# Altium integrated library Analog Devices Data Converters Analog-to-Digital Converters.IntLib: 2400 symbols (part 291 of 338)
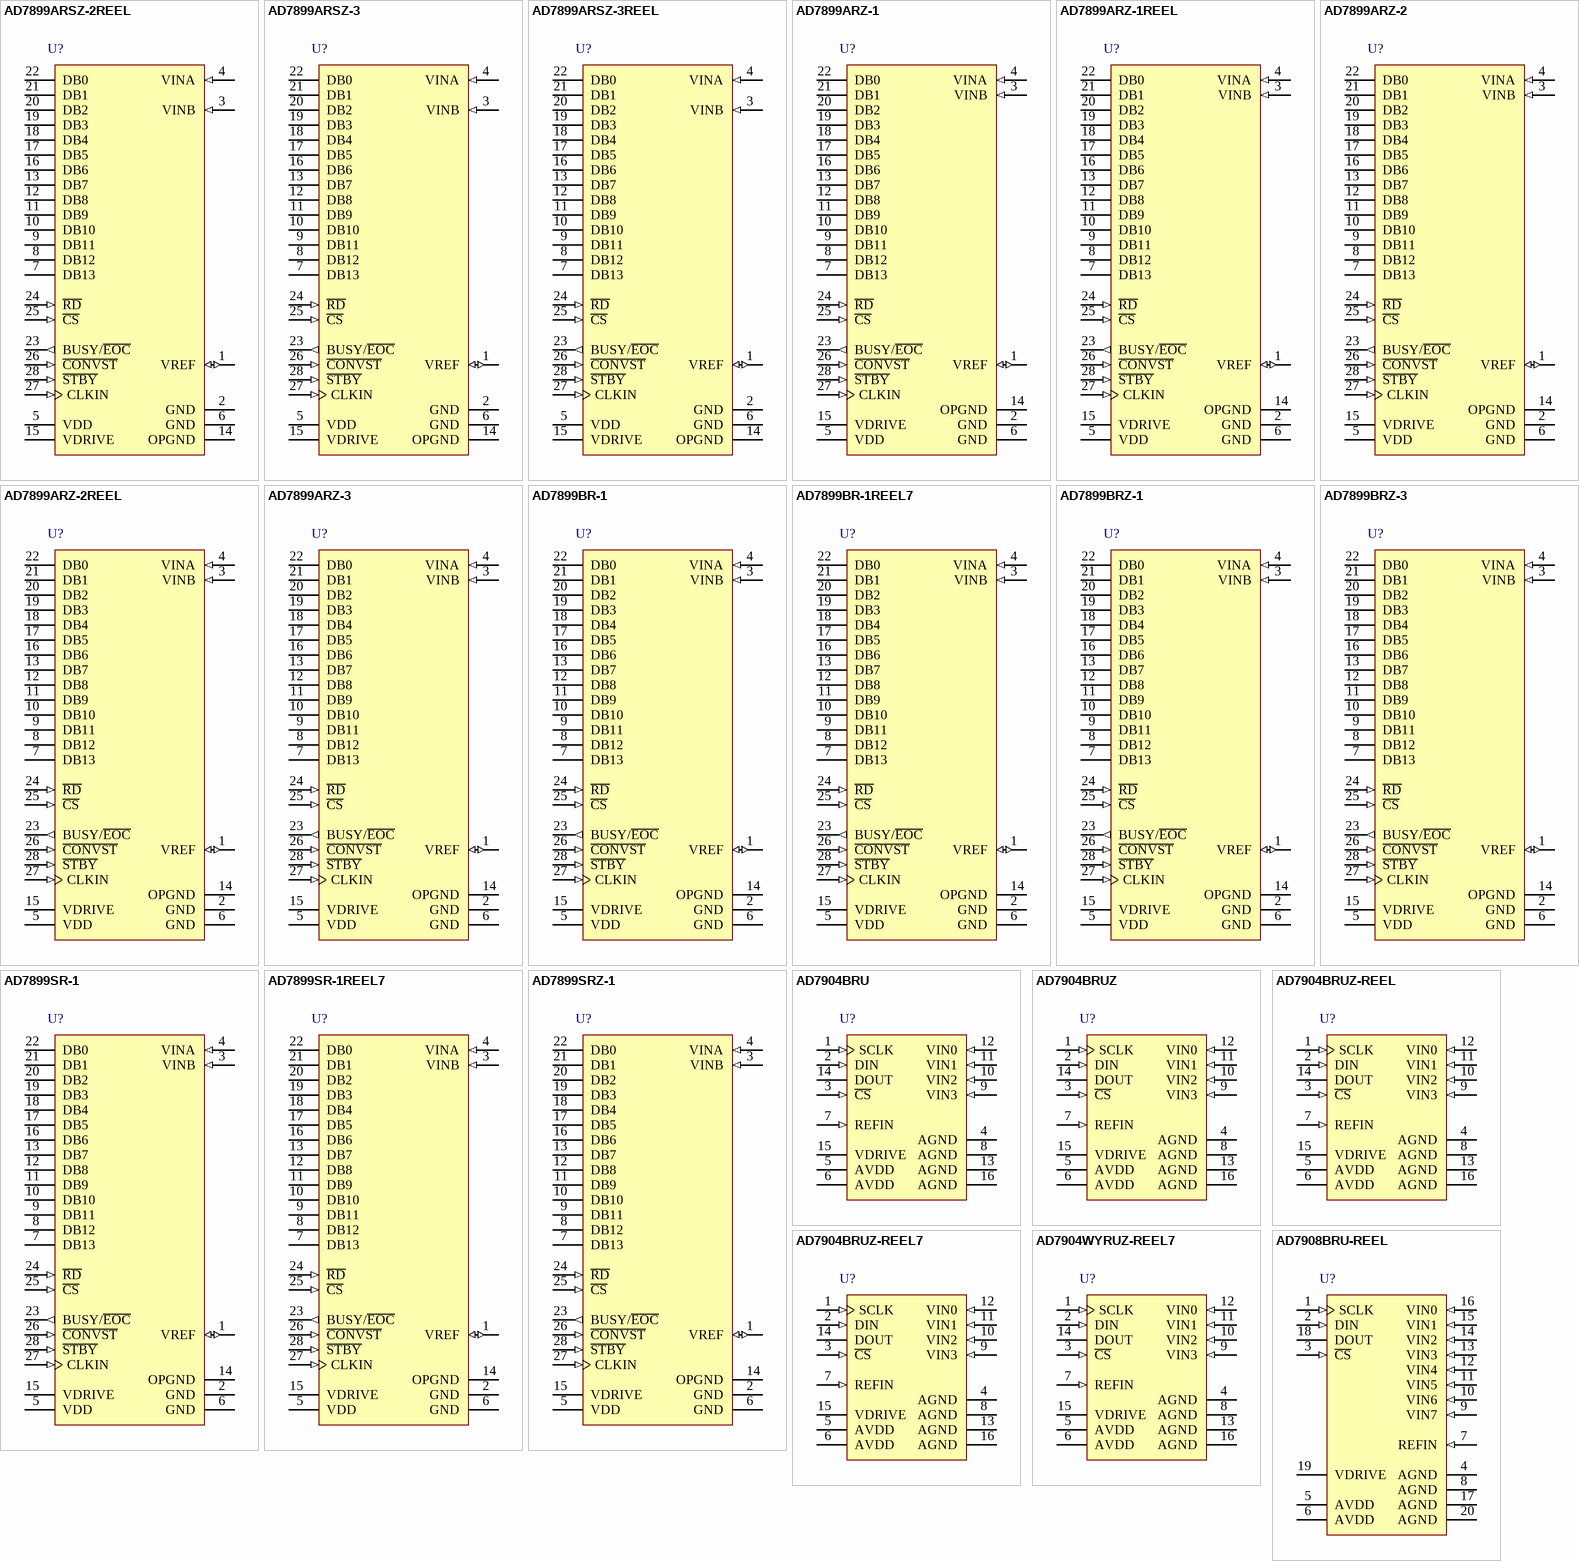
[diagram p413: symbols AD7899ARSZ-2REEL to AD7908BRU-REEL]

## AD7899BR-1REEL7
designator U?
Single 14-Bit Analog-to-Digital Converter with Parallel Interface, 5 V 400KSPS, -40 to +85 degC, RW-28, Reel; Part Number: AD7899; Manufacturer: Analog Devices; Resolution (Bits): 14; Channels: 1; Throughput Rate (SPS): 400K; Interface: Par; DatasheetVersion: Rev.A; PackageVersion: 060706-A; PackageReference: RW-28; PackageDescription: 28-Lead Standard Small Outline Package [SOIC_W]; RoHS: N; Packing: Reel; Mounting Technology: Surface Mount; Code_JEDEC: MS-013-AE; ComponentLink1Description: Manufacturer URL; ComponentLink1URL: http://www.analog.com/en/index.html; ComponentLink2Description: Datasheet; ComponentLink2URL: http://www.analog.com/static/imported-files/data_sheets/AD7899.pdf; ComponentLink3Description: Package Specification; ComponentLink3URL: http://www.analog.com/static/imported-files/packages/35833120341221RW_28.pdf; ComponentLink4Description: Product URL; ComponentLink4URL: http://www.analog.com/en/analog-to-digital-converters/ad-converters/ad7899/products/product.html
footprint RW-28_N (SOIC, 28-Leads, Body 17.9x7.5mm, Pitch 1.27mm, IPC Medium Density)
footprint RW-28_L (SOIC, 28-Leads, Body 17.9x7.5mm, Pitch 1.27mm, IPC High Density)
footprint RW-28_M (SOIC, 28-Leads, Body 17.9x7.5mm, Pitch 1.27mm, IPC Low Density)
pins: 1 VREF (io) "Reference Input/Output. This pin is provides access to the internal reference (2.5 V +/- 20 mV) and also allows the internal reference to be overdriven by an external reference source (2.5 V +/- 5%). A 0.1 uF decoupling (See Datasheet)", 2 GND (power) "Ground Pin. This pin should be connected to the system’s analog ground plane.", 3 VINB (in) "Analog Inputs. See Analog Input Section.", 4 VINA (in) "Analog Inputs. See Analog Input Section.", 5 VDD (power) "Positive Supply Voltage, 5.0 V +/- 5%.", 6 GND (power) "Ground Pin. This pin should be connected to the system’s analog ground plane.", 7 DB13 (hiz) "Data Bit 13 is the MSB, followed by Data Bit 12 to Data Bit 7. Three-state outputs.", 8 DB12 (hiz) "Data Bit 13 is the MSB, followed by Data Bit 12 to Data Bit 7. Three-state outputs.", 9 DB11 (hiz) "Data Bit 13 is the MSB, followed by Data Bit 12 to Data Bit 7. Three-state outputs.", 10 DB10 (hiz) "Data Bit 13 is the MSB, followed by Data Bit 12 to Data Bit 7. Three-state outputs.", 11 DB9 (hiz) "Data Bit 13 is the MSB, followed by Data Bit 12 to Data Bit 7. Three-state outputs.", 12 DB8 (hiz) "Data Bit 13 is the MSB, followed by Data Bit 12 to Data Bit 7. Three-state outputs.", 13 DB7 (hiz) "Data Bit 13 is the MSB, followed by Data Bit 12 to Data Bit 7. Three-state outputs.", 14 OPGND (power) "Output Driver Ground. This is the ground pin of the output drivers for D13 to D0 and BUSY/E\O\C\. It should be connected to the system’s analog ground plane .", 15 VDRIVE (power) "This pin provides the positive supply voltage for the digital inputs and outputs. It is normally tied to VDD but may also be powered by a 3 V +/- 10% supply which allows the inputs and outputs to be interfaced to 3 V (See Datasheet)", 16 DB6 (hiz) "Data Bit 6 to Data Bit 0. Three-state Outputs.", 17 DB5 (hiz) "Data Bit 6 to Data Bit 0. Three-state Outputs.", 18 DB4 (hiz) "Data Bit 6 to Data Bit 0. Three-state Outputs.", 19 DB3 (hiz) "Data Bit 6 to Data Bit 0. Three-state Outputs.", 20 DB2 (hiz) "Data Bit 6 to Data Bit 0. Three-state Outputs.", 21 DB1 (hiz) "Data Bit 6 to Data Bit 0. Three-state Outputs.", 22 DB0 (hiz) "Data Bit 6 to Data Bit 0. Three-state Outputs.", 23 BUSY/~{EOC} (out) "BUSY/E\O\C\ Output. Digital output pin used to signify that a conversion is in progress or that a conversion has finished. The function of the BUSY/E\O\C\ is determined by the state of C\O\N\V\S\T\ at the end of conversion. (See Datasheet)", 24 ~{RD} (in) "Read Input. Active low logic input which is used in conjunction with C\S\ low to enable the data outputs.", 25 ~{CS} (in) "Chip Select Input. Active low logic input. The device is selected when this input is active.", 26 ~{CONVST} (in) "Convert Start Input. Logic Input. A low to high transition on this input puts the track/hold into hold mode and starts conversion.", 27 CLKIN (in) "Conversion Clock Input. CLKIN is an externally applied clock which allows the user to control the conversion rate of the AD7899. If the CLKIN input is high on the rising edge of C\O\N\V\S\T\ an externally applied clock will (See Datasheet)", 28 ~{STBY} (in) "Standby Mode Input. Logic input which is used to put the device into the power save or standby mode. The S\T\B\Y\ input is high for normal operation and low for standby operation."

## AD7899BRZ-1
designator U?
Single 14-Bit Analog-to-Digital Converter with Parallel Interface, 5 V 400KSPS, -40 to +85 degC, RW-28, Pb-Free, Tube; Part Number: AD7899; Manufacturer: Analog Devices; Resolution (Bits): 14; Channels: 1; Throughput Rate (SPS): 400K; Interface: Par; DatasheetVersion: Rev.A; PackageVersion: 060706-A; PackageReference: RW-28; PackageDescription: 28-Lead Standard Small Outline Package [SOIC_W]; RoHS: Y; Packing: Tube; Mounting Technology: Surface Mount; Code_JEDEC: MS-013-AE; ComponentLink1Description: Manufacturer URL; ComponentLink1URL: http://www.analog.com/en/index.html; ComponentLink2Description: Datasheet; ComponentLink2URL: http://www.analog.com/static/imported-files/data_sheets/AD7899.pdf; ComponentLink3Description: Package Specification; ComponentLink3URL: http://www.analog.com/static/imported-files/packages/35833120341221RW_28.pdf; ComponentLink4Description: Product URL; ComponentLink4URL: http://www.analog.com/en/analog-to-digital-converters/ad-converters/ad7899/products/product.html
footprint RW-28_N (SOIC, 28-Leads, Body 17.9x7.5mm, Pitch 1.27mm, IPC Medium Density)
footprint RW-28_L (SOIC, 28-Leads, Body 17.9x7.5mm, Pitch 1.27mm, IPC High Density)
footprint RW-28_M (SOIC, 28-Leads, Body 17.9x7.5mm, Pitch 1.27mm, IPC Low Density)
pins: 1 VREF (io) "Reference Input/Output. This pin is provides access to the internal reference (2.5 V +/- 20 mV) and also allows the internal reference to be overdriven by an external reference source (2.5 V +/- 5%). A 0.1 uF decoupling (See Datasheet)", 2 GND (power) "Ground Pin. This pin should be connected to the system’s analog ground plane.", 3 VINB (in) "Analog Inputs. See Analog Input Section.", 4 VINA (in) "Analog Inputs. See Analog Input Section.", 5 VDD (power) "Positive Supply Voltage, 5.0 V +/- 5%.", 6 GND (power) "Ground Pin. This pin should be connected to the system’s analog ground plane.", 7 DB13 (hiz) "Data Bit 13 is the MSB, followed by Data Bit 12 to Data Bit 7. Three-state outputs.", 8 DB12 (hiz) "Data Bit 13 is the MSB, followed by Data Bit 12 to Data Bit 7. Three-state outputs.", 9 DB11 (hiz) "Data Bit 13 is the MSB, followed by Data Bit 12 to Data Bit 7. Three-state outputs.", 10 DB10 (hiz) "Data Bit 13 is the MSB, followed by Data Bit 12 to Data Bit 7. Three-state outputs.", 11 DB9 (hiz) "Data Bit 13 is the MSB, followed by Data Bit 12 to Data Bit 7. Three-state outputs.", 12 DB8 (hiz) "Data Bit 13 is the MSB, followed by Data Bit 12 to Data Bit 7. Three-state outputs.", 13 DB7 (hiz) "Data Bit 13 is the MSB, followed by Data Bit 12 to Data Bit 7. Three-state outputs.", 14 OPGND (power) "Output Driver Ground. This is the ground pin of the output drivers for D13 to D0 and BUSY/E\O\C\. It should be connected to the system’s analog ground plane .", 15 VDRIVE (power) "This pin provides the positive supply voltage for the digital inputs and outputs. It is normally tied to VDD but may also be powered by a 3 V +/- 10% supply which allows the inputs and outputs to be interfaced to 3 V (See Datasheet)", 16 DB6 (hiz) "Data Bit 6 to Data Bit 0. Three-state Outputs.", 17 DB5 (hiz) "Data Bit 6 to Data Bit 0. Three-state Outputs.", 18 DB4 (hiz) "Data Bit 6 to Data Bit 0. Three-state Outputs.", 19 DB3 (hiz) "Data Bit 6 to Data Bit 0. Three-state Outputs.", 20 DB2 (hiz) "Data Bit 6 to Data Bit 0. Three-state Outputs.", 21 DB1 (hiz) "Data Bit 6 to Data Bit 0. Three-state Outputs.", 22 DB0 (hiz) "Data Bit 6 to Data Bit 0. Three-state Outputs.", 23 BUSY/~{EOC} (out) "BUSY/E\O\C\ Output. Digital output pin used to signify that a conversion is in progress or that a conversion has finished. The function of the BUSY/E\O\C\ is determined by the state of C\O\N\V\S\T\ at the end of conversion. (See Datasheet)", 24 ~{RD} (in) "Read Input. Active low logic input which is used in conjunction with C\S\ low to enable the data outputs.", 25 ~{CS} (in) "Chip Select Input. Active low logic input. The device is selected when this input is active.", 26 ~{CONVST} (in) "Convert Start Input. Logic Input. A low to high transition on this input puts the track/hold into hold mode and starts conversion.", 27 CLKIN (in) "Conversion Clock Input. CLKIN is an externally applied clock which allows the user to control the conversion rate of the AD7899. If the CLKIN input is high on the rising edge of C\O\N\V\S\T\ an externally applied clock will (See Datasheet)", 28 ~{STBY} (in) "Standby Mode Input. Logic input which is used to put the device into the power save or standby mode. The S\T\B\Y\ input is high for normal operation and low for standby operation."

## AD7899BRZ-3
designator U?
Single 14-Bit Analog-to-Digital Converter with Parallel Interface, 5 V 400KSPS, -40 to +85 degC, RW-28, Pb-Free, Tube; Part Number: AD7899; Manufacturer: Analog Devices; Resolution (Bits): 14; Channels: 1; Throughput Rate (SPS): 400K; Interface: Par; DatasheetVersion: Rev.A; PackageVersion: 060706-A; PackageReference: RW-28; PackageDescription: 28-Lead Standard Small Outline Package [SOIC_W]; RoHS: Y; Packing: Tube; Mounting Technology: Surface Mount; Code_JEDEC: MS-013-AE; ComponentLink1Description: Manufacturer URL; ComponentLink1URL: http://www.analog.com/en/index.html; ComponentLink2Description: Datasheet; ComponentLink2URL: http://www.analog.com/static/imported-files/data_sheets/AD7899.pdf; ComponentLink3Description: Package Specification; ComponentLink3URL: http://www.analog.com/static/imported-files/packages/35833120341221RW_28.pdf; ComponentLink4Description: Product URL; ComponentLink4URL: http://www.analog.com/en/analog-to-digital-converters/ad-converters/ad7899/products/product.html
footprint RW-28_N (SOIC, 28-Leads, Body 17.9x7.5mm, Pitch 1.27mm, IPC Medium Density)
footprint RW-28_L (SOIC, 28-Leads, Body 17.9x7.5mm, Pitch 1.27mm, IPC High Density)
footprint RW-28_M (SOIC, 28-Leads, Body 17.9x7.5mm, Pitch 1.27mm, IPC Low Density)
pins: 1 VREF (io) "Reference Input/Output. This pin is provides access to the internal reference (2.5 V +/- 20 mV) and also allows the internal reference to be overdriven by an external reference source (2.5 V +/- 5%). A 0.1 uF decoupling (See Datasheet)", 2 GND (power) "Ground Pin. This pin should be connected to the system’s analog ground plane.", 3 VINB (in) "Analog Inputs. See Analog Input Section.", 4 VINA (in) "Analog Inputs. See Analog Input Section.", 5 VDD (power) "Positive Supply Voltage, 5.0 V +/- 5%.", 6 GND (power) "Ground Pin. This pin should be connected to the system’s analog ground plane.", 7 DB13 (hiz) "Data Bit 13 is the MSB, followed by Data Bit 12 to Data Bit 7. Three-state outputs.", 8 DB12 (hiz) "Data Bit 13 is the MSB, followed by Data Bit 12 to Data Bit 7. Three-state outputs.", 9 DB11 (hiz) "Data Bit 13 is the MSB, followed by Data Bit 12 to Data Bit 7. Three-state outputs.", 10 DB10 (hiz) "Data Bit 13 is the MSB, followed by Data Bit 12 to Data Bit 7. Three-state outputs.", 11 DB9 (hiz) "Data Bit 13 is the MSB, followed by Data Bit 12 to Data Bit 7. Three-state outputs.", 12 DB8 (hiz) "Data Bit 13 is the MSB, followed by Data Bit 12 to Data Bit 7. Three-state outputs.", 13 DB7 (hiz) "Data Bit 13 is the MSB, followed by Data Bit 12 to Data Bit 7. Three-state outputs.", 14 OPGND (power) "Output Driver Ground. This is the ground pin of the output drivers for D13 to D0 and BUSY/E\O\C\. It should be connected to the system’s analog ground plane .", 15 VDRIVE (power) "This pin provides the positive supply voltage for the digital inputs and outputs. It is normally tied to VDD but may also be powered by a 3 V +/- 10% supply which allows the inputs and outputs to be interfaced to 3 V (See Datasheet)", 16 DB6 (hiz) "Data Bit 6 to Data Bit 0. Three-state Outputs.", 17 DB5 (hiz) "Data Bit 6 to Data Bit 0. Three-state Outputs.", 18 DB4 (hiz) "Data Bit 6 to Data Bit 0. Three-state Outputs.", 19 DB3 (hiz) "Data Bit 6 to Data Bit 0. Three-state Outputs.", 20 DB2 (hiz) "Data Bit 6 to Data Bit 0. Three-state Outputs.", 21 DB1 (hiz) "Data Bit 6 to Data Bit 0. Three-state Outputs.", 22 DB0 (hiz) "Data Bit 6 to Data Bit 0. Three-state Outputs.", 23 BUSY/~{EOC} (out) "BUSY/E\O\C\ Output. Digital output pin used to signify that a conversion is in progress or that a conversion has finished. The function of the BUSY/E\O\C\ is determined by the state of C\O\N\V\S\T\ at the end of conversion. (See Datasheet)", 24 ~{RD} (in) "Read Input. Active low logic input which is used in conjunction with C\S\ low to enable the data outputs.", 25 ~{CS} (in) "Chip Select Input. Active low logic input. The device is selected when this input is active.", 26 ~{CONVST} (in) "Convert Start Input. Logic Input. A low to high transition on this input puts the track/hold into hold mode and starts conversion.", 27 CLKIN (in) "Conversion Clock Input. CLKIN is an externally applied clock which allows the user to control the conversion rate of the AD7899. If the CLKIN input is high on the rising edge of C\O\N\V\S\T\ an externally applied clock will (See Datasheet)", 28 ~{STBY} (in) "Standby Mode Input. Logic input which is used to put the device into the power save or standby mode. The S\T\B\Y\ input is high for normal operation and low for standby operation."